# Altium footprint library LM_B65888N1012D001_RM14_12PIN.PcbLib: 1 footprints
Each footprint in its own frame and in the unit in brackets; x right, y up, seen from the top. Pads: shape width x height; smd on the part's side, far side on the other; paste and mask are expansions set on the pad; w line width, h text height; cw(c..) or ccw(c..) is an arc to the next point about the centre after c.
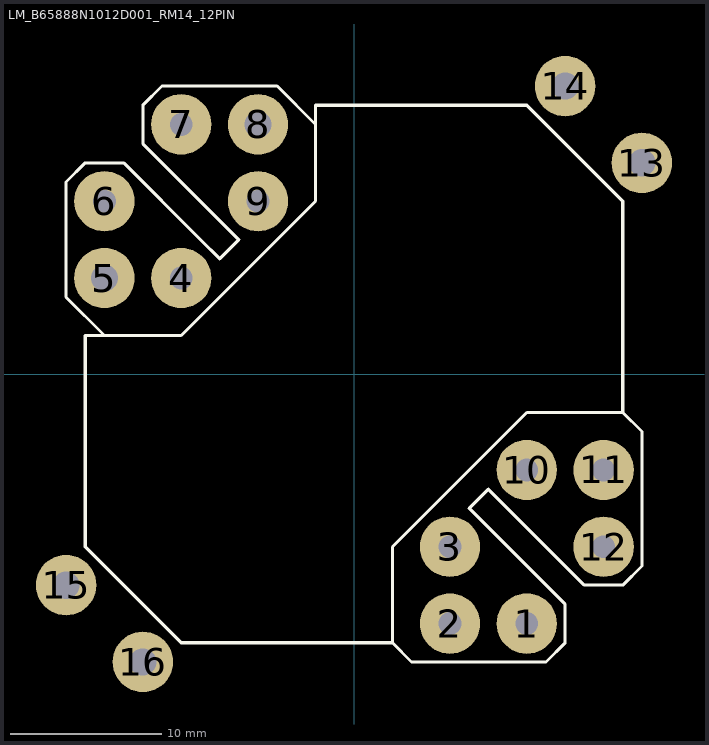
[diagram p0: the footprint, top view; thin cyan lines are the x and y axes]

## LM_B65888N1012D001_RM14_12PIN [mm]
pads (16):
  round 4 hole 1.5: 1(11.43,-16.51) 2(6.35,-16.51) 3(6.35,-11.43) 4(-11.43,6.35) 6(-16.51,11.43) 7(-11.43,16.51) 9(-6.35,11.43) 10(11.43,-6.35) 11(16.51,-6.35) 12(16.51,-11.43)
  round 4 hole 1.8: 5(-16.51,6.35) 8(-6.35,16.51) 13(19.05,13.97) 14(13.97,19.05) 15(-19.05,-13.97) 16(-13.97,-19.05)
Top Overlay:
  lines w0.2: -16.51,2.54 -19.05,5.08 -19.05,10.16 -19.05,12.7 -17.78,13.97 -15.24,13.97 -10.16,8.89 -8.89,7.62 -7.62,8.89 -13.97,15.24 -13.97,17.78 -12.7,19.05 -10.16,19.05 -5.08,19.05 -2.54,16.51 ; 2.54,-17.78 -11.43,-17.78 -17.78,-11.43 -17.78,2.54 -11.43,2.54 -2.54,11.43 -2.54,17.78 11.43,17.78 17.78,11.43 17.78,-2.54 ; 2.54,-17.78 2.54,-11.43 11.43,-2.54 17.78,-2.54 ; 2.54,-17.78 3.81,-19.05 11.43,-19.05 12.7,-19.05 13.97,-17.78 13.97,-15.24 7.62,-8.89 8.89,-7.62 15.24,-13.97 17.78,-13.97 19.05,-12.7 19.05,-3.81 17.78,-2.54
3D body "RM-14_12pin.stp": height 30.25, standoff -2.75, extent -19.586,-19.586 19.586,19.586